# EAGLE library part EAF42 (library radiotubes)
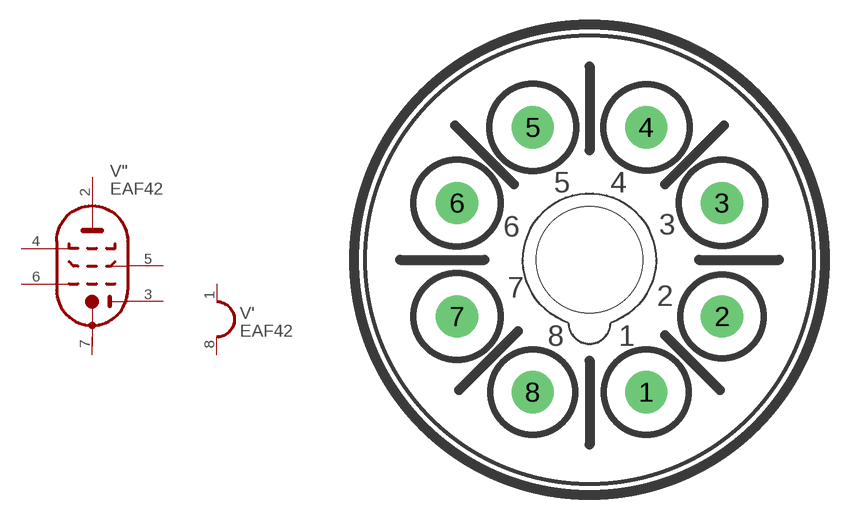
[diagram p96: symbol with the pads of RIMLOCK; footprint RIMLOCK]

Designator prefix V; gates "=DI-PENT '=HEATER_1

## EAF42  [RIMLOCK]
1  ':H1  pas
2  ":PA  pas
3  ":D2  pas
4  ":PG3  pas
5  ":PG2  pas
6  ":PG1  pas
7  ":K+S  pas
8  ':H2  pas

## Footprint RIMLOCK (pad centres in mm)
drill 0.813 pad 2.54: 1 3.429,-8.001; 2 8.001,-3.429; 3 8.001,3.429; 4 3.429,8.001; 5 -3.429,8.001; 6 -8.001,3.429; 7 -8.001,-3.429; 8 -3.429,-8.001
hole 6.452 at 0,0